# EAGLE library part ATMEGA168/328 (library kxn_Standard_MCU)
MICROCONTROLLER 16/32 kBytes FLASH with atmega168/Atmega328 1/2 kBytes SRAM with atmega168/Atmega328 512/1k Bytes EEPROM with atmega168/Atmega328 USART 8-channel 10 bit ADC
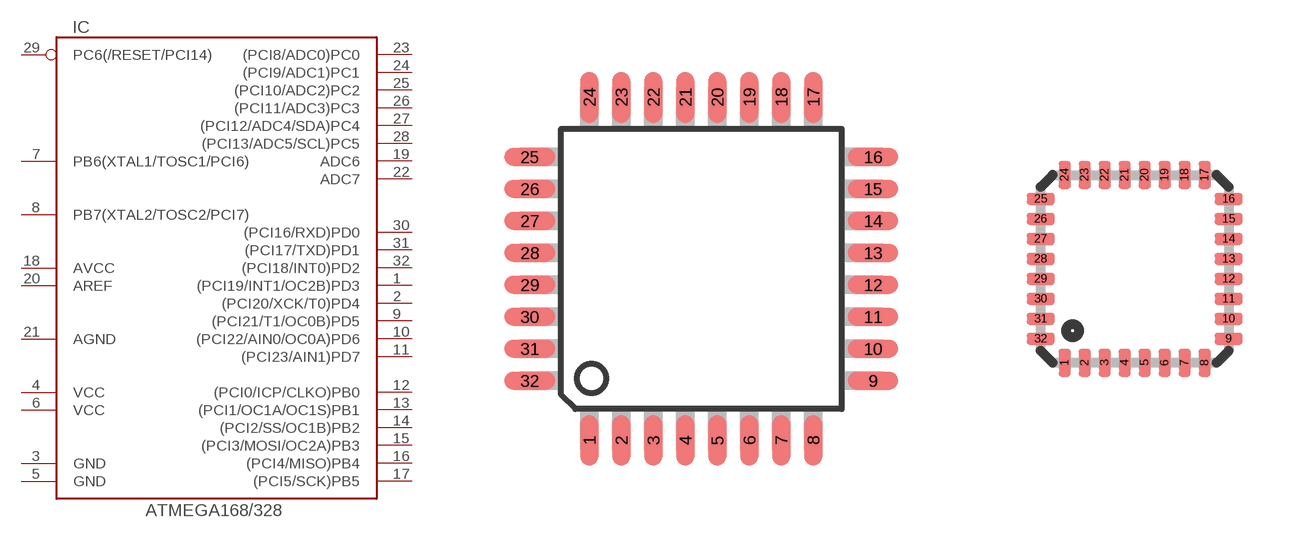
[diagram p3: symbol with the pads of TQFP32-08; footprints TQFP32-08, MLF32]

Designator prefix IC

## ATMEGA168/328-20A, ATMEGA168/328V-10A  [TQFP32-08]
1  (PCI19/INT1/OC2B)PD3
2  (PCI20/XCK/T0)PD4
3  GND  pwr
4  VCC  pwr
5  GND  pwr
6  VCC  pwr
7  PB6(XTAL1/TOSC1/PCI6)
8  PB7(XTAL2/TOSC2/PCI7)
9  (PCI21/T1/OC0B)PD5
10  (PCI22/AIN0/OC0A)PD6
11  (PCI23/AIN1)PD7
12  (PCI0/ICP/CLKO)PB0
13  (PCI1/OC1A/OC1S)PB1
14  (PCI2/SS/OC1B)PB2
15  (PCI3/MOSI/OC2A)PB3
16  (PCI4/MISO)PB4
17  (PCI5/SCK)PB5
18  AVCC
19  ADC6
20  AREF
21  AGND
22  ADC7
23  (PCI8/ADC0)PC0
24  (PCI9/ADC1)PC1
25  (PCI10/ADC2)PC2
26  (PCI11/ADC3)PC3
27  (PCI12/ADC4/SDA)PC4
28  (PCI13/ADC5/SCL)PC5
29  PC6(/RESET/PCI14)
30  (PCI16/RXD)PD0
31  (PCI17/TXD)PD1
32  (PCI18/INT0)PD2

## ATMEGA168/328-20M, ATMEGA168/328V-10M  [MLF32]
Pads as for TQFP32-08

## Footprint TQFP32-08 (pad centres in mm)
Thin Plasic Quad Flat Package Grid 0.8 mm
smd 0.45 x 1.27: 1 -2.8,-4.293; 2 -2,-4.293; 3 -1.2,-4.293; 4 -0.4,-4.293; 5 0.4,-4.293; 6 1.2,-4.293; 7 2,-4.293; 8 2.8,-4.293; 17 2.8,4.293; 18 2,4.293; 19 1.2,4.293; 20 0.4,4.293; 21 -0.4,4.293; 22 -1.2,4.293; 23 -2,4.293; 24 -2.8,4.293
smd 1.27 x 0.45: 9 4.293,-2.8; 10 4.293,-2; 11 4.293,-1.2; 12 4.293,-0.4; 13 4.293,0.4; 14 4.293,1.2; 15 4.293,2; 16 4.293,2.8; 25 -4.293,2.8; 26 -4.293,2; 27 -4.293,1.2; 28 -4.293,0.4; 29 -4.293,-0.4; 30 -4.293,-1.2; 31 -4.293,-2; 32 -4.293,-2.8

## Footprint MLF32 (pad centres in mm)
32M1-A Micro Lead Frame package (MLF)
smd 0.3 x 0.7: 1 -1.75,-2.35; 2 -1.25,-2.35; 3 -0.75,-2.35; 4 -0.25,-2.35; 5 0.25,-2.35; 6 0.75,-2.35; 7 1.25,-2.35; 8 1.75,-2.35; 17 1.75,2.35; 18 1.25,2.35; 19 0.75,2.35; 20 0.25,2.35; 21 -0.25,2.35; 22 -0.75,2.35; 23 -1.25,2.35; 24 -1.75,2.35
smd 0.7 x 0.3: 9 2.35,-1.75; 10 2.35,-1.25; 11 2.35,-0.75; 12 2.35,-0.25; 13 2.35,0.25; 14 2.35,0.75; 15 2.35,1.25; 16 2.35,1.75; 25 -2.35,1.75; 26 -2.35,1.25; 27 -2.35,0.75; 28 -2.35,0.25; 29 -2.35,-0.25; 30 -2.35,-0.75; 31 -2.35,-1.25; 32 -2.35,-1.75